# Altium schematic symbol library Connectors-RF.SchLib: 1 symbol
Pins are listed as number, name and electrical type; pins without a type are passive.

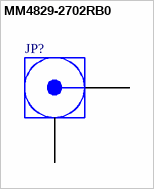
[diagram p0: symbol MM4829-2702RB0]

## MM4829-2702RB0
designator JP?  (value not drawn)
CONN HSC RCPT STR 50 OHM SMD; Manufacturer: Murata; PackageReference: HSC; PartNumber: MM4829-2702RB0; Mounting Technology: Surface Mount
footprint COAX-HSC
pins: 1 (power), 2 (power)